# Altium schematic symbol library Tantalum_Capacitor.SchLib: 45 symbols (part 1 of 2)
Pins are listed as number, name and electrical type; pins without a type are passive.

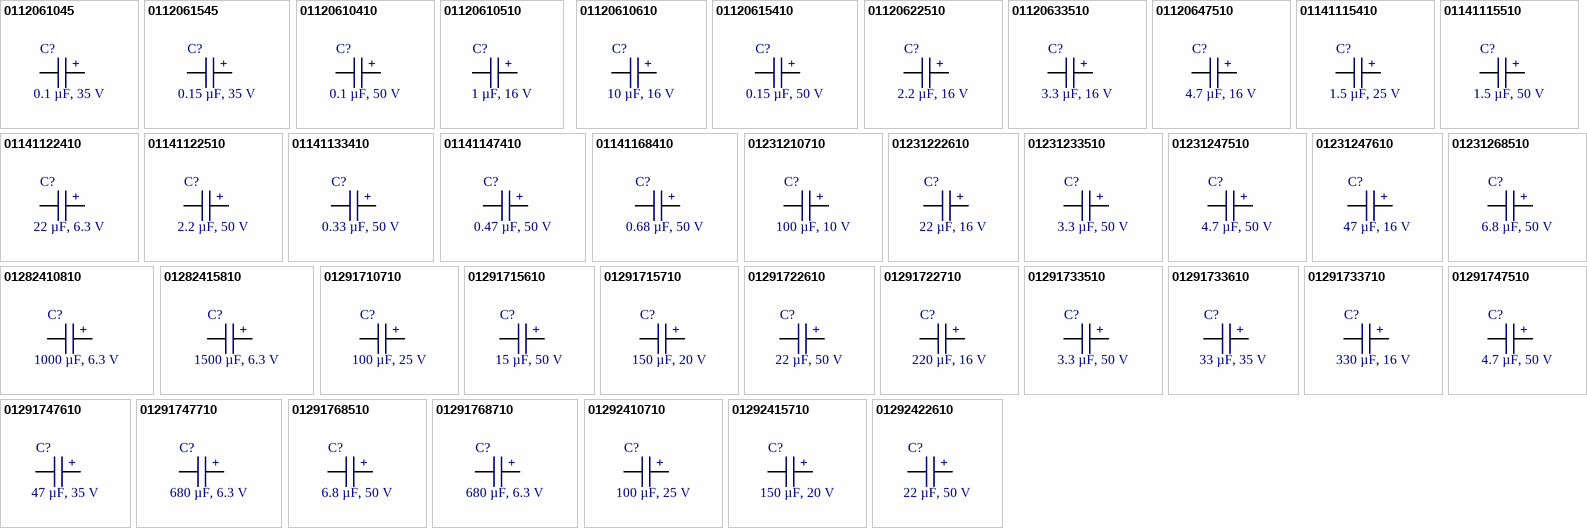
[diagram p0: symbols 0112061045 to 01292422610]

## 0112061045
designator C?, comment 0.1 µF, 35 V
CAP TANT 0.1uF  5% 35V 1206; Manufacture  Name: KYOCERA AVX; Manufacture  SN: TAJA104J035SNJ; Capacitance Tolerance: +/-5%; ComponentLink1Description: Datasheet link; ComponentLink1URL: https://datasheets.kyocera-avx.com/TAJ.pdf; ComponentLink2Description: Supplier 1 URL; ComponentLink2URL: https://www.mouser.vn/ProductDetail/KYOCERA-AVX/TAJA104J035SNJ?qs=pYVYkI7xuRU3ndoOX90AKw%3D%3D; Size: 1206; Mounting Technology: SMT; Capacitance: 0.1uF; ComponentLink3Description: Supplier 2 URL; ComponentLink3URL: https://www.digikey.com/en/products/detail/kyocera-avx/TAJA104J035SNJ/11201828?s=N4IgjCBcoMxaBjKAzAhgGwM4FMA0IB7KAbRACYBWABjgF18AHAFyhAGUmAnASwDsBzEAF98ANgCc8EEkhoseQiRAAWKuJjqQ9EM1YceA4fjJVlk6NJQYc%2BIpFJUAdGAAEAVoBiWxi0ggAqrzcTADyyACy2KiYAK6c2EYgALQQFjJyNor2KgDsABxaQkVAA; ComponentLink4Description: Supplier 3 URL; ComponentLink4URL: N/A; Supplier 1 Name: Mouser; Supplier 1 SN: 581-TAJA104J035SNJ; Supplier 1 URL: https://www.mouser.vn/ProductDetail/KYOCERA-AVX/TAJA104J035SNJ?qs=pYVYkI7xuRU3ndoOX90AKw%3D%3D; Supplier 2 Name: Digi-Key; Supplier 2 SN: 478-TAJA104J035SNJTR-ND; Supplier 2 URL: https://www.digikey.com/en/products/detail/kyocera-avx/TAJA104J035SNJ/11201828?s=N4IgjCBcoMxaBjKAzAhgGwM4FMA0IB7KAbRACYBWABjgF18AHAFyhAGUmAnASwDsBzEAF98ANgCc8EEkhoseQiRAAWKuJjqQ9EM1YceA4fjJVlk6NJQYc%2BIpFJUAdGAAEAVoBiWxi0ggAqrzcTADyyACy2KiYAK6c2EYgALQQFjJyNor2KgDsABxaQkVAA; Supplier 3 Name: thegioiic; Supplier 3 SN: N/A; Supplier 3 URL: N/A; Value: 0.1 µF, 35 V; Rated Voltage: 35 V
footprint TANTALUM SMD A (SMD TIPO A 3.2x1.6x1.6)
pins: 1, 2
text: +

## 0112061545
designator C?, comment 0.15 µF, 35 V
CAP TANT 0.15uF  5% 35V 1206; Manufacture  Name: KYOCERA AVX; Manufacture  SN: TAJA154J035RNJ; Capacitance Tolerance: +/-5%; ComponentLink1Description: Datasheet link; ComponentLink1URL: https://datasheets.kyocera-avx.com/TAJ.pdf; ComponentLink2Description: Supplier 1 URL; ComponentLink2URL: https://www.mouser.vn/ProductDetail/KYOCERA-AVX/TAJA154J035RNJ?qs=BsbvQ3Qf5CIOtUBeZxyNWw%3D%3D; Size: 1206; Mounting Technology: SMT; Capacitance: 0.15uF; ComponentLink3Description: Supplier 2 URL; ComponentLink3URL: https://www.digikey.com/en/products/detail/kyocera-avx/TAJA154J035RNJ/3068397?s=N4IgjCBcoMxaBjKAzAhgGwM4FMA0IB7KAbRACYBWABjgF18AHAFyhAGUmAnASwDsBzEAF98ANgCc8EEkhoseQiRAAWKuJjqQ9EM1YceA4fjJVlk6NJQYc%2BIpFJUAdGAoACAK0AxLYxaQQAKq83EwA8sgAstiomACunNhG5FQA7OaIVvK2SjBuAGo%2BOn6BwWGR0XEJSQC0EBYycjaK9iopABxaQl1AA; ComponentLink4Description: Supplier 3 URL; ComponentLink4URL: N/A; Supplier 1 Name: Mouser; Supplier 1 SN: 581-TAJA154J035RNJ; Supplier 1 URL: https://www.mouser.vn/ProductDetail/KYOCERA-AVX/TAJA154J035RNJ?qs=BsbvQ3Qf5CIOtUBeZxyNWw%3D%3D; Supplier 2 Name: Digi-Key; Supplier 2 SN: TAJA154J035RNJ-ND; Supplier 2 URL: https://www.digikey.com/en/products/detail/kyocera-avx/TAJA154J035RNJ/3068397?s=N4IgjCBcoMxaBjKAzAhgGwM4FMA0IB7KAbRACYBWABjgF18AHAFyhAGUmAnASwDsBzEAF98ANgCc8EEkhoseQiRAAWKuJjqQ9EM1YceA4fjJVlk6NJQYc%2BIpFJUAdGAoACAK0AxLYxaQQAKq83EwA8sgAstiomACunNhG5FQA7OaIVvK2SjBuAGo%2BOn6BwWGR0XEJSQC0EBYycjaK9iopABxaQl1AA; Supplier 3 Name: thegioiic; Supplier 3 SN: N/A; Supplier 3 URL: N/A; Value: 0.15 µF, 35 V; Rated Voltage: 35 V
footprint TANTALUM SMD A (SMD TIPO A 3.2x1.6x1.6)
pins: 1, 2
text: +

## 01120610410
designator C?, comment 0.1 µF, 50 V
CAP TANT 0.1uF 10% 50V 1206; Manufacture  Name: KYOCERA AVX; Manufacture  SN: TAJA104K050RNJ; Capacitance Tolerance: +/-10%; ComponentLink1Description: Datasheet link; ComponentLink1URL: https://datasheets.kyocera-avx.com/TAJ.pdf; ComponentLink2Description: Supplier 1 URL; ComponentLink2URL: https://www.mouser.vn/ProductDetail/KYOCERA-AVX/TAJA104K050RNJ?qs=OVpPYgiJXXX8t9XINbNxkw%3D%3D; Size: 1206; Mounting Technology: SMT; Capacitance: 0.1uF; ComponentLink3Description: Supplier 2 URL; ComponentLink3URL: https://www.digikey.com/en/products/detail/kyocera-avx/TAJA104K050RNJ/563756; ComponentLink4Description: Supplier 3 URL; ComponentLink4URL: N/A; Supplier 1 Name: Mouser; Supplier 1 SN: 581-TAJA104K050; Supplier 1 URL: https://www.mouser.vn/ProductDetail/KYOCERA-AVX/TAJA104K050RNJ?qs=OVpPYgiJXXX8t9XINbNxkw%3D%3D; Supplier 2 Name: Digi-Key; Supplier 2 SN: 478-1648-1-ND; Supplier 2 URL: https://www.digikey.com/en/products/detail/kyocera-avx/TAJA104K050RNJ/563756; Supplier 3 Name: thegioiic; Supplier 3 SN: N/A; Supplier 3 URL: N/A; Value: 0.1 µF, 50 V; Rated Voltage: 50 V
footprint TANTALUM SMD A (SMD TIPO A 3.2x1.6x1.6)
pins: 1, 2
text: +

## 01120610510
designator C?, comment 1 µF, 16 V
CAP TANT 1uF 10% 16V 1206; Manufacture  Name: KYOCERA AVX; Manufacture  SN: TAJA105K016RNJ; Capacitance Tolerance: +/-10%; ComponentLink1Description: Datasheet link; ComponentLink1URL: https://datasheets.kyocera-avx.com/TAJ.pdf; ComponentLink2Description: Supplier 1 URL; ComponentLink2URL: https://www.mouser.vn/ProductDetail/KYOCERA-AVX/TAJA105K016RNJ?qs=OVpPYgiJXXWzOIbDvQCr4Q%3D%3D; Size: 1206; Mounting Technology: SMT; Capacitance: 1uF; ComponentLink3Description: Supplier 2 URL; ComponentLink3URL: https://www.digikey.com/en/products/detail/kyocera-avx/TAJA105K016RNJ/563757; ComponentLink4Description: Supplier 3 URL; ComponentLink4URL: https://www.thegioiic.com/tu-tantalum-1uf-16v-1206-taja105k016rnj; Supplier 1 Name: Mouser; Supplier 1 SN: 581-TAJA105K016; Supplier 1 URL: https://www.mouser.vn/ProductDetail/KYOCERA-AVX/TAJA105K016RNJ?qs=OVpPYgiJXXWzOIbDvQCr4Q%3D%3D; Supplier 2 Name: Digi-Key; Supplier 2 SN: 478-1649-1-ND; Supplier 2 URL: https://www.digikey.com/en/products/detail/kyocera-avx/TAJA105K016RNJ/563757; Supplier 3 Name: thegioiic; Supplier 3 SN: N/A; Supplier 3 URL: https://www.thegioiic.com/tu-tantalum-1uf-16v-1206-taja105k016rnj; Value: 1 µF, 16 V; Rated Voltage: 16 V
footprint TANTALUM SMD A (SMD TIPO A 3.2x1.6x1.6)
pins: 1, 2
text: +

## 01120610610
designator C?, comment 10 µF, 16 V
CAP TANT 10uF 10% 16V 1206; Manufacture  Name: KYOCERA AVX; Manufacture  SN: TPSA106K016R1000; Capacitance Tolerance: +/-10%; ComponentLink1Description: Datasheet link; ComponentLink1URL: https://datasheets.kyocera-avx.com/TAJ.pdf; ComponentLink2Description: Supplier 1 URL; ComponentLink2URL: https://www.mouser.vn/ProductDetail/KYOCERA-AVX/TPSA106K016R1000?qs=GLv2FRWg8zkKT7IxHlCjvQ%3D%3D; Size: 1206; Mounting Technology: SMT; Capacitance: 10uF; ComponentLink3Description: Supplier 2 URL; ComponentLink3URL: https://www.digikey.com/en/products/detail/kyocera-avx/TPSA106K016R1000/7536120; ComponentLink4Description: Supplier 3 URL; ComponentLink4URL: https://www.thegioiic.com/tu-tantalum-10uf-16v-1206-taja106k016rnj; Supplier 1 Name: Mouser; Supplier 1 SN: 581-TPSA106K016R1000; Supplier 1 URL: https://www.mouser.vn/ProductDetail/KYOCERA-AVX/TPSA106K016R1000?qs=GLv2FRWg8zkKT7IxHlCjvQ%3D%3D; Supplier 2 Name: Digi-Key; Supplier 2 SN: 478-10757-1-ND; Supplier 2 URL: https://www.digikey.com/en/products/detail/kyocera-avx/TPSA106K016R1000/7536120; Supplier 3 Name: thegioiic; Supplier 3 SN: N/A; Supplier 3 URL: https://www.thegioiic.com/tu-tantalum-10uf-16v-1206-taja106k016rnj; Value: 10 µF, 16 V; Rated Voltage: 16 V
footprint TANTALUM SMD A (SMD TIPO A 3.2x1.6x1.6)
pins: 1, 2
text: +

## 01120615410
designator C?, comment 0.15 µF, 50 V
CAP TANT 0.15uF 10% 50V 1206; Manufacture  Name: KYOCERA AVX; Manufacture  SN: TPSA154K050R9000; Capacitance Tolerance: +/-10%; ComponentLink1Description: Datasheet link; ComponentLink1URL: https://www.mouser.vn/datasheet/2/40/TPS-3165399.pdf; ComponentLink2Description: Supplier 1 URL; ComponentLink2URL: https://www.mouser.vn/ProductDetail/KYOCERA-AVX/TPSA154K050R9000?qs=GAN3VKepnJqNxuh%2FrqDuOw%3D%3D; Size: 1206; Mounting Technology: SMT; Capacitance: 0.15uF; ComponentLink3Description: Supplier 2 URL; ComponentLink3URL: https://www.digikey.com/en/products/detail/kyocera-avx/TPSA154K050R9000/678497; ComponentLink4Description: Supplier 3 URL; ComponentLink4URL: N/A; Supplier 1 Name: Mouser; Supplier 1 SN: 581-TPSA154K050R9000; Supplier 1 URL: https://www.mouser.vn/ProductDetail/KYOCERA-AVX/TPSA154K050R9000?qs=GAN3VKepnJqNxuh%2FrqDuOw%3D%3D; Supplier 2 Name: Digi-Key; Supplier 2 SN: 478-2418-2-ND; Supplier 2 URL: https://www.digikey.com/en/products/detail/kyocera-avx/TPSA154K050R9000/678497; Supplier 3 Name: thegioiic; Supplier 3 SN: N/A; Supplier 3 URL: N/A; Value: 0.15 µF, 50 V; Rated Voltage: 50 V
footprint TANTALUM SMD A (SMD TIPO A 3.2x1.6x1.6)
pins: 1, 2
text: +

## 01120622510
designator C?, comment 2.2 µF, 16 V
CAP TANT 2.2uF 10% 16V 1206; Manufacture  Name: KYOCERA AVX; Manufacture  SN: TAJA225K016RNJ; Capacitance Tolerance: +/-10%; ComponentLink1Description: Datasheet link; ComponentLink1URL: https://datasheets.kyocera-avx.com/TAJ.pdf; ComponentLink2Description: Supplier 1 URL; ComponentLink2URL: https://www.mouser.vn/ProductDetail/KYOCERA-AVX/TAJA225K016RNJ?qs=QtLZGLLAmDbQo3XekLTU0g%3D%3D; Size: 1206; Mounting Technology: SMT; Capacitance: 2.2uF; ComponentLink3Description: Supplier 2 URL; ComponentLink3URL: https://www.digikey.com/en/products/detail/kyocera-avx/TAJA225K016RNJ/678438; ComponentLink4Description: Supplier 3 URL; ComponentLink4URL: https://www.thegioiic.com/tu-tantalum-2-2uf-16v-1206-taja225k016rnj; Supplier 1 Name: Mouser; Supplier 1 SN: 581-TAJA225K016; Supplier 1 URL: https://www.mouser.vn/ProductDetail/KYOCERA-AVX/TAJA225K016RNJ?qs=QtLZGLLAmDbQo3XekLTU0g%3D%3D; Supplier 2 Name: Digi-Key; Supplier 2 SN: 478-2353-1-ND; Supplier 2 URL: https://www.digikey.com/en/products/detail/kyocera-avx/TAJA225K016RNJ/678438; Supplier 3 Name: thegioiic; Supplier 3 SN: N/A; Supplier 3 URL: https://www.thegioiic.com/tu-tantalum-2-2uf-16v-1206-taja225k016rnj; Value: 2.2 µF, 16 V; Rated Voltage: 16 V
footprint TANTALUM SMD A (SMD TIPO A 3.2x1.6x1.6)
pins: 1, 2
text: +

## 01120633510
designator C?, comment 3.3 µF, 16 V
CAP TANT 3.3uF 10% 16V 1206; Manufacture  Name: KYOCERA AVX; Manufacture  SN: TAJA335K016RNJ; Capacitance Tolerance: +/-10%; ComponentLink1Description: Datasheet link; ComponentLink1URL: https://datasheets.kyocera-avx.com/TAJ.pdf; ComponentLink2Description: Supplier 1 URL; ComponentLink2URL: https://www.mouser.vn/ProductDetail/KYOCERA-AVX/TAJA335K016RNJ?qs=QtLZGLLAmDYTBMXnGUwm2A%3D%3D; Size: 1206; Mounting Technology: SMT; Capacitance: 3.3uF; ComponentLink3Description: Supplier 2 URL; ComponentLink3URL: https://www.digikey.com/en/products/detail/kyocera-avx/TAJA335K016RNJ/678439; ComponentLink4Description: Supplier 3 URL; ComponentLink4URL: https://www.thegioiic.com/tu-tantalum-3-3uf-16v-1206-taja335k016rnj; Supplier 1 Name: Mouser; Supplier 1 SN: 581-TAJA335K016; Supplier 1 URL: https://www.mouser.vn/ProductDetail/KYOCERA-AVX/TAJA335K016RNJ?qs=QtLZGLLAmDYTBMXnGUwm2A%3D%3D; Supplier 2 Name: Digi-Key; Supplier 2 SN: 478-2354-1-ND; Supplier 2 URL: https://www.digikey.com/en/products/detail/kyocera-avx/TAJA335K016RNJ/678439; Supplier 3 Name: thegioiic; Supplier 3 SN: N/A; Supplier 3 URL: https://www.thegioiic.com/tu-tantalum-3-3uf-16v-1206-taja335k016rnj; Value: 3.3 µF, 16 V; Rated Voltage: 16 V
footprint TANTALUM SMD A (SMD TIPO A 3.2x1.6x1.6)
pins: 1, 2
text: +

## 01120647510
designator C?, comment 4.7 µF, 16 V
CAP TANT 4.7uF 10% 16V 1206; Manufacture  Name: KYOCERA AVX; Manufacture  SN: TPSA475K016R2000; Capacitance Tolerance: +/-10%; ComponentLink1Description: Datasheet link; ComponentLink1URL: https://datasheets.kyocera-avx.com/TAJ.pdf; ComponentLink2Description: Supplier 1 URL; ComponentLink2URL: https://www.mouser.vn/ProductDetail/KYOCERA-AVX/TPSA475K016R2000?qs=dlcQbHFISzyWCYhT7KMnWQ%3D%3D; Size: 1206; Mounting Technology: SMT; Capacitance: 4.7uF; ComponentLink3Description: Supplier 2 URL; ComponentLink3URL: https://www.digikey.com/en/products/detail/kyocera-avx/TPSA475K016R2000/1472630; ComponentLink4Description: Supplier 3 URL; ComponentLink4URL: https://www.thegioiic.com/tu-tantalum-4-7uf-16v-1206-taja475k016rnj; Supplier 1 Name: Mouser; Supplier 1 SN: 581-TPSA475K016R2000; Supplier 1 URL: https://www.mouser.vn/ProductDetail/KYOCERA-AVX/TPSA475K016R2000?qs=dlcQbHFISzyWCYhT7KMnWQ%3D%3D; Supplier 2 Name: Digi-Key; Supplier 2 SN: 478-5229-1-ND; Supplier 2 URL: https://www.digikey.com/en/products/detail/kyocera-avx/TPSA475K016R2000/1472630; Supplier 3 Name: thegioiic; Supplier 3 SN: N/A; Supplier 3 URL: https://www.thegioiic.com/tu-tantalum-4-7uf-16v-1206-taja475k016rnj; Value: 4.7 µF, 16 V; Rated Voltage: 16 V
footprint TANTALUM SMD A (SMD TIPO A 3.2x1.6x1.6)
pins: 1, 2
text: +

## 01141115410
designator C?, comment 1.5 µF, 25 V
CAP TANT 0.15uF 10% 50V 1411; Manufacture  Name: KYOCERA AVX; Manufacture  SN: TAJB154K050RNJ; Capacitance Tolerance: +/-10%; Rated Voltage: 25 V; ComponentLink1Description: Datasheet link; ComponentLink1URL: https://datasheets.kyocera-avx.com/TAJ.pdf; ComponentLink2Description: Supplier 1 URL; ComponentLink2URL: https://www.mouser.vn/ProductDetail/KYOCERA-AVX/TAJB154K050RNJ?qs=0%252BYwpxhRXZjP4qpMbEsfoQ%3D%3D; Size: 1411; Mounting Technology: SMT; Capacitance: 0.15uF; ComponentLink3Description: Supplier 2 URL; ComponentLink3URL: https://www.digikey.com/en/products/detail/kyocera-avx/TAJB154K050RNJ/1469630?s=N4IgjCBcoMxaBjKAzAhgGwM4FMA0IB7KAbXBgBYAGEAXXwAcAXKEAZUYCcBLAOwHMQAX3xgAbPBBJIaLHkIkQATnIAOUXDogmLdt35D8oxRKkyc%2BIpFJVFMW7QbNIbTrwHCQAJkrlj0SSgY5vJWIJQAdGAArAAEAK0AYg5aTiAAqjxcjADyyACy2KiYAK4c2AZelADsfoiBshYKUZQxAGrJ2s4ZWbkFRaXlHgC0EP6mQXKW1lUqtILzQA; ComponentLink4Description: Supplier 3 URL; ComponentLink4URL: N/A; Supplier 1 Name: Mouser; Supplier 1 SN: 581-TAJB154K050RNJ; Supplier 1 URL: https://www.mouser.vn/ProductDetail/KYOCERA-AVX/TAJB154K050RNJ?qs=0%252BYwpxhRXZjP4qpMbEsfoQ%3D%3D; Supplier 2 Name: Digi-Key; Supplier 2 SN: TAJB154K050RNJ-ND; Supplier 2 URL: https://www.digikey.com/en/products/detail/kyocera-avx/TAJB154K050RNJ/1469630?s=N4IgjCBcoMxaBjKAzAhgGwM4FMA0IB7KAbXBgBYAGEAXXwAcAXKEAZUYCcBLAOwHMQAX3xgAbPBBJIaLHkIkQATnIAOUXDogmLdt35D8oxRKkyc%2BIpFJVFMW7QbNIbTrwHCQAJkrlj0SSgY5vJWIJQAdGAArAAEAK0AYg5aTiAAqjxcjADyyACy2KiYAK4c2AZelADsfoiBshYKUZQxAGrJ2s4ZWbkFRaXlHgC0EP6mQXKW1lUqtILzQA; Supplier 3 Name: thegioiic; Supplier 3 SN: N/A; Supplier 3 URL: N/A; Value: 1.5 µF, 25 V
footprint TANTALUM SMD B (SMD TIPO B 3.5x2.8x1.9)
pins: 1, 2
text: +

## 01141115510
designator C?, comment 1.5 µF, 50 V
CAP TANT 1.5uF 10% 50V 1411; Manufacture  Name: KYOCERA AVX; Manufacture  SN: TAJB155K050RNJ; Capacitance Tolerance: +/-10%; ComponentLink1Description: Datasheet link; ComponentLink1URL: https://datasheets.kyocera-avx.com/TAJ.pdf; ComponentLink2Description: Supplier 1 URL; ComponentLink2URL: https://www.mouser.vn/ProductDetail/KYOCERA-AVX/TAJB155K050RNJ?qs=73RpG39PUGic2ntV4iBqEA%3D%3D; Size: 1411; Mounting Technology: SMT; Capacitance: 1.5uF; ComponentLink3Description: Supplier 2 URL; ComponentLink3URL: https://www.digikey.com/en/products/detail/kyocera-avx/TAJB155K050RNJ/2832824?s=N4IgjCBcoMxaBjKAzAhgGwM4FMA0IB7KAbXBgBYAGEAXXwAcAXKEAZUYCcBLAOwHMQAX3xgAbPBBJIaLHkIkQATnIAOUXDogmLdt35D8oxRKkyc%2BIpFJVFMW7QbNIbTrwHCQAJkrlj0SSgY5vJW4AB0AKwABACtAGIOWk4gAKo8XIwA8sgAstiomACuHNgGXpQA7H6IgbIWChGUUQBqidrOaRnZeQXFpR4AtBD%2BpkFyltYVKrSCs0A; ComponentLink4Description: Supplier 3 URL; ComponentLink4URL: N/A; Supplier 1 Name: Mouser; Supplier 1 SN: 581-TAJB155K050RNJ; Supplier 1 URL: https://www.mouser.vn/ProductDetail/KYOCERA-AVX/TAJB155K050RNJ?qs=73RpG39PUGic2ntV4iBqEA%3D%3D; Supplier 2 Name: Digi-Key; Supplier 2 SN: 478-6928-1-ND; Supplier 2 URL: https://www.digikey.com/en/products/detail/kyocera-avx/TAJB155K050RNJ/2832824?s=N4IgjCBcoMxaBjKAzAhgGwM4FMA0IB7KAbXBgBYAGEAXXwAcAXKEAZUYCcBLAOwHMQAX3xgAbPBBJIaLHkIkQATnIAOUXDogmLdt35D8oxRKkyc%2BIpFJVFMW7QbNIbTrwHCQAJkrlj0SSgY5vJW4AB0AKwABACtAGIOWk4gAKo8XIwA8sgAstiomACuHNgGXpQA7H6IgbIWChGUUQBqidrOaRnZeQXFpR4AtBD%2BpkFyltYVKrSCs0A; Supplier 3 Name: thegioiic; Supplier 3 SN: N/A; Supplier 3 URL: N/A; Value: 1.5 µF, 50 V; Rated Voltage: 50 V
footprint TANTALUM SMD B (SMD TIPO B 3.5x2.8x1.9)
pins: 1, 2
text: +

## 01141122410
designator C?, comment 22 µF, 6.3 V
CAP TANT 0.22uF 10% 50V 1411; Manufacture  Name: KYOCERA AVX; Manufacture  SN: TAJB224K050RNJ; Capacitance Tolerance: +/-10%; Rated Voltage: 6.3 V; ComponentLink1Description: Datasheet link; ComponentLink1URL: https://datasheets.kyocera-avx.com/TAJ.pdf; ComponentLink2Description: Supplier 1 URL; ComponentLink2URL: https://www.mouser.vn/ProductDetail/KYOCERA-AVX/TAJB224K050RNJ?qs=fdqkYiOtZpcKcsmA68utwQ%3D%3D; Size: 1411; Mounting Technology: SMT; Capacitance: 0.22uF; ComponentLink3Description: Supplier 2 URL; ComponentLink3URL: https://www.digikey.com/en/products/detail/kyocera-avx/TAJB224K050RNJ/1469656?s=N4IgjCBcoMxaBjKAzAhgGwM4FMA0IB7KAbXBgBYAGEAXXwAcAXKEAZUYCcBLAOwHMQAX3xgAbPBBJIaLHkIkQATnIAOUXDogmLdt35D8oxRKkyc%2BIpFJVFMW7QbNIbTrwHCQAJkrlj0SSgY5vJWIJQAdJ6eAAQArQBiDlpOIACqPFyMAPLIALLYqJgArhzYBl6UAOx%2BiIGyFgoArJTRAGpJ2s7pmTn5hSVlHgC0EP6mQXKW1pUqtILzQA; ComponentLink4Description: Supplier 3 URL; ComponentLink4URL: N/A; Supplier 1 Name: Mouser; Supplier 1 SN: 581-TAJB224K050R; Supplier 1 URL: https://www.mouser.vn/ProductDetail/KYOCERA-AVX/TAJB224K050RNJ?qs=fdqkYiOtZpcKcsmA68utwQ%3D%3D; Supplier 2 Name: Digi-Key; Supplier 2 SN: TAJB224K050RNJ-ND; Supplier 2 URL: https://www.digikey.com/en/products/detail/kyocera-avx/TAJB224K050RNJ/1469656?s=N4IgjCBcoMxaBjKAzAhgGwM4FMA0IB7KAbXBgBYAGEAXXwAcAXKEAZUYCcBLAOwHMQAX3xgAbPBBJIaLHkIkQATnIAOUXDogmLdt35D8oxRKkyc%2BIpFJVFMW7QbNIbTrwHCQAJkrlj0SSgY5vJWIJQAdJ6eAAQArQBiDlpOIACqPFyMAPLIALLYqJgArhzYBl6UAOx%2BiIGyFgoArJTRAGpJ2s7pmTn5hSVlHgC0EP6mQXKW1pUqtILzQA; Supplier 3 Name: thegioiic; Supplier 3 SN: N/A; Supplier 3 URL: N/A; Value: 22 µF, 6.3 V
footprint TANTALUM SMD B (SMD TIPO B 3.5x2.8x1.9)
pins: 1, 2
text: +

## 01141122510
designator C?, comment 2.2 µF, 50 V
CAP TANT 2.2uF 10% 50V 1411; Manufacture  Name: KYOCERA AVX; Manufacture  SN: TAJB225K050RNJ; Capacitance Tolerance: +/-10%; ComponentLink1Description: Datasheet link; ComponentLink1URL: https://datasheets.kyocera-avx.com/TAJ.pdf; ComponentLink2Description: Supplier 1 URL; ComponentLink2URL: https://www.mouser.vn/ProductDetail/KYOCERA-AVX/TAJB225K050RNJ?qs=73RpG39PUGikdEZBwF7MGw%3D%3D; Size: 1411; Mounting Technology: SMT; Capacitance: 2.2uF; ComponentLink3Description: Supplier 2 URL; ComponentLink3URL: https://www.digikey.com/en/products/detail/kyocera-avx/TAJB225K050RNJ/2832813?s=N4IgjCBcoMxaBjKAzAhgGwM4FMA0IB7KAbXBgBYAGEAXXwAcAXKEAZUYCcBLAOwHMQAX3xgAbPBBJIaLHkIkQATnIAOUXDogmLdt35D8oxRKkyc%2BIpFJVFMW7QbNIbTrwHCQAJkrlj0SSgY5vJWXgB0ngAEAK0AYg5aTiAAqjxcjADyyACy2KiYAK4c2AZelADsfoiBshYKAKyUkQBqCdrOqelZuflFJR4AtBD%2BpkFyltblKrSCs0A; ComponentLink4Description: Supplier 3 URL; ComponentLink4URL: N/A; Supplier 1 Name: Mouser; Supplier 1 SN: 581-TAJB225K050RNJ; Supplier 1 URL: https://www.mouser.vn/ProductDetail/KYOCERA-AVX/TAJB225K050RNJ?qs=73RpG39PUGikdEZBwF7MGw%3D%3D; Supplier 2 Name: Digi-Key; Supplier 2 SN: 478-6929-1-ND; Supplier 2 URL: https://www.digikey.com/en/products/detail/kyocera-avx/TAJB225K050RNJ/2832813?s=N4IgjCBcoMxaBjKAzAhgGwM4FMA0IB7KAbXBgBYAGEAXXwAcAXKEAZUYCcBLAOwHMQAX3xgAbPBBJIaLHkIkQATnIAOUXDogmLdt35D8oxRKkyc%2BIpFJVFMW7QbNIbTrwHCQAJkrlj0SSgY5vJWXgB0ngAEAK0AYg5aTiAAqjxcjADyyACy2KiYAK4c2AZelADsfoiBshYKAKyUkQBqCdrOqelZuflFJR4AtBD%2BpkFyltblKrSCs0A; Supplier 3 Name: thegioiic; Supplier 3 SN: N/A; Supplier 3 URL: N/A; Value: 2.2 µF, 50 V; Rated Voltage: 50 V
footprint TANTALUM SMD B (SMD TIPO B 3.5x2.8x1.9)
pins: 1, 2
text: +

## 01141133410
designator C?, comment 0.33 µF, 50 V
CAP TANT 0.33uF 10% 50V 1411; Manufacture  Name: KYOCERA AVX; Manufacture  SN: TAJB334K050RNJ; Capacitance Tolerance: +/-10%; ComponentLink1Description: Datasheet link; ComponentLink1URL: https://datasheets.kyocera-avx.com/TAJ.pdf; ComponentLink2Description: Supplier 1 URL; ComponentLink2URL: https://www.mouser.vn/ProductDetail/KYOCERA-AVX/TAJB334K050RNJ?qs=vCvzkGKhcJSmv%2FHntFw%2FSQ%3D%3D; Size: 1411; Mounting Technology: SMT; Capacitance: 0.33uF; ComponentLink3Description: Supplier 2 URL; ComponentLink3URL: https://www.digikey.com/en/products/detail/kyocera-avx/TAJB334K050RNJ/678456; ComponentLink4Description: Supplier 3 URL; ComponentLink4URL: N/A; Supplier 1 Name: Mouser; Supplier 1 SN: 581-TAJB334K050R; Supplier 1 URL: https://www.mouser.vn/ProductDetail/KYOCERA-AVX/TAJB334K050RNJ?qs=vCvzkGKhcJSmv%2FHntFw%2FSQ%3D%3D; Supplier 2 Name: Digi-Key; Supplier 2 SN: 478-2377-1-ND; Supplier 2 URL: https://www.digikey.com/en/products/detail/kyocera-avx/TAJB334K050RNJ/678456; Supplier 3 Name: thegioiic; Supplier 3 SN: N/A; Supplier 3 URL: N/A; Value: 0.33 µF, 50 V; Rated Voltage: 50 V
footprint TANTALUM SMD B (SMD TIPO B 3.5x2.8x1.9)
pins: 1, 2
text: +

## 01141147410
designator C?, comment 0.47 µF, 50 V
CAP TANT 0.47uF 10% 50V 1411; Manufacture  Name: KYOCERA AVX; Manufacture  SN: TAJB474K050RNJ; Capacitance Tolerance: +/-10%; ComponentLink1Description: Datasheet link; ComponentLink1URL: https://datasheets.kyocera-avx.com/TAJ.pdf; ComponentLink2Description: Supplier 1 URL; ComponentLink2URL: https://www.mouser.vn/ProductDetail/KYOCERA-AVX/TAJB474K050RNJ?qs=mgX5NEyWO4TSsLAWu6Licg%3D%3D; Size: 1411; Mounting Technology: SMT; Capacitance: 0.47uF; ComponentLink3Description: Supplier 2 URL; ComponentLink3URL: https://www.digikey.com/en/products/detail/kyocera-avx/TAJB474K050RNJ/678457; ComponentLink4Description: Supplier 3 URL; ComponentLink4URL: N/A; Supplier 1 Name: Mouser; Supplier 1 SN: 581-TAJB474K050RNJ; Supplier 1 URL: https://www.mouser.vn/ProductDetail/KYOCERA-AVX/TAJB474K050RNJ?qs=mgX5NEyWO4TSsLAWu6Licg%3D%3D; Supplier 2 Name: Digi-Key; Supplier 2 SN: 478-2378-1-ND; Supplier 2 URL: https://www.digikey.com/en/products/detail/kyocera-avx/TAJB474K050RNJ/678457; Supplier 3 Name: thegioiic; Supplier 3 SN: N/A; Supplier 3 URL: N/A; Value: 0.47 µF, 50 V; Rated Voltage: 50 V
footprint TANTALUM SMD B (SMD TIPO B 3.5x2.8x1.9)
pins: 1, 2
text: +

## 01141168410
designator C?, comment 0.68 µF, 50 V
CAP TANT 0.68uF 10% 50V 1411; Manufacture  Name: KYOCERA AVX; Manufacture  SN: TAJB684K050RNJ; Capacitance Tolerance: +/-10%; ComponentLink1Description: Datasheet link; ComponentLink1URL: https://datasheets.kyocera-avx.com/TAJ.pdf; ComponentLink2Description: Supplier 1 URL; ComponentLink2URL: https://www.mouser.vn/ProductDetail/KYOCERA-AVX/TAJB684K050RNJ?qs=ZjRtS80k2UPzIFnmfsjorA%3D%3D; Size: 1411; Mounting Technology: SMT; Capacitance: 0.68uF; ComponentLink3Description: Supplier 2 URL; ComponentLink3URL: https://www.digikey.com/en/products/detail/kyocera-avx/TAJB684K050RNJ/678458; ComponentLink4Description: Supplier 3 URL; ComponentLink4URL: N/A; Supplier 1 Name: Mouser; Supplier 1 SN: 581-TAJB684K050RNJ; Supplier 1 URL: https://www.mouser.vn/ProductDetail/KYOCERA-AVX/TAJB684K050RNJ?qs=ZjRtS80k2UPzIFnmfsjorA%3D%3D; Supplier 2 Name: Digi-Key; Supplier 2 SN: 478-2379-2-ND; Supplier 2 URL: https://www.digikey.com/en/products/detail/kyocera-avx/TAJB684K050RNJ/678458; Supplier 3 Name: thegioiic; Supplier 3 SN: N/A; Supplier 3 URL: N/A; Value: 0.68 µF, 50 V; Rated Voltage: 50 V
footprint TANTALUM SMD B (SMD TIPO B 3.5x2.8x1.9)
pins: 1, 2
text: +

## 01231210710
designator C?, comment 100 µF, 10 V
CAP TANT 100uF 10% 10V 2312; Manufacture  Name: KYOCERA AVX; Manufacture  SN: TAJC107K010RNJ; Capacitance Tolerance: +/-10%; ComponentLink1Description: Datasheet link; ComponentLink1URL: https://datasheets.kyocera-avx.com/TAJ.pdf; ComponentLink2Description: Supplier 1 URL; ComponentLink2URL: https://www.mouser.vn/ProductDetail/KYOCERA-AVX/TAJC107K010RNJ?qs=fdqkYiOtZpdKu8G0TQzFvw%3D%3D; Size: 2312; Mounting Technology: SMT; Capacitance: 100uF; ComponentLink3Description: Supplier 2 URL; ComponentLink3URL: https://www.digikey.com/en/products/detail/kyocera-avx/TAJC107K010RNJ/563809; ComponentLink4Description: Supplier 3 URL; ComponentLink4URL: https://www.thegioiic.com/tu-tantalum-100uf-10v-2312-tajc107k010rnj; Supplier 1 Name: Mouser; Supplier 1 SN: 581-TAJC107K010R; Supplier 1 URL: https://www.mouser.vn/ProductDetail/KYOCERA-AVX/TAJC107K010RNJ?qs=fdqkYiOtZpdKu8G0TQzFvw%3D%3D; Supplier 2 Name: Digi-Key; Supplier 2 SN: 478-1704-1-ND; Supplier 2 URL: https://www.digikey.com/en/products/detail/kyocera-avx/TAJC107K010RNJ/563809; Supplier 3 Name: thegioiic; Supplier 3 SN: N/A; Supplier 3 URL: https://www.thegioiic.com/tu-tantalum-100uf-10v-2312-tajc107k010rnj; Value: 100 µF, 10 V; Rated Voltage: 10 V
footprint TANTALUM SMD C (SMD TIPO C 6.0x3.2x2.2)
pins: 1, 2
text: +

## 01231222610
designator C?, comment 22 µF, 16 V
CAP TANT 22uF 10% 16V 2312; Manufacture  Name: KYOCERA AVX; Manufacture  SN: TAJC226K016RNJ; Capacitance Tolerance: +/-10%; ComponentLink1Description: Datasheet link; ComponentLink1URL: https://datasheets.kyocera-avx.com/TAJ.pdf; ComponentLink2Description: Supplier 1 URL; ComponentLink2URL: https://www.mouser.vn/ProductDetail/KYOCERA-AVX/TAJC226K016RNJ?qs=zt0pNtghXG%252B8PDA37tw3BQ%3D%3D; Size: 2312; Mounting Technology: SMT; Capacitance: 22uF; ComponentLink3Description: Supplier 2 URL; ComponentLink3URL: https://www.digikey.com/en/products/detail/kyocera-avx/TAJC226K016RNJ/1126827; ComponentLink4Description: Supplier 3 URL; ComponentLink4URL: https://www.thegioiic.com/tu-tantalum-22uf-16v-2312-tajc226k016rnj; Supplier 1 Name: Mouser; Supplier 1 SN: 581-TAJC226K016R; Supplier 1 URL: https://www.mouser.vn/ProductDetail/KYOCERA-AVX/TAJC226K016RNJ?qs=zt0pNtghXG%252B8PDA37tw3BQ%3D%3D; Supplier 2 Name: Digi-Key; Supplier 2 SN: 478-3899-1-ND; Supplier 2 URL: https://www.digikey.com/en/products/detail/kyocera-avx/TAJC226K016RNJ/1126827; Supplier 3 Name: thegioiic; Supplier 3 SN: N/A; Supplier 3 URL: https://www.thegioiic.com/tu-tantalum-22uf-16v-2312-tajc226k016rnj; Value: 22 µF, 16 V; Rated Voltage: 16 V
footprint TANTALUM SMD C (SMD TIPO C 6.0x3.2x2.2)
pins: 1, 2
text: +

## 01231233510
designator C?, comment 3.3 µF, 50 V
CAP TANT 3.3uF 10% 50V 2312; Manufacture  Name: KYOCERA AVX; Manufacture  SN: TAJC335K050RNJ; Capacitance Tolerance: +/-10%; ComponentLink1Description: Datasheet link; ComponentLink1URL: https://datasheets.kyocera-avx.com/TAJ.pdf; ComponentLink2Description: Supplier 1 URL; ComponentLink2URL: https://www.mouser.vn/ProductDetail/KYOCERA-AVX/TAJC335K050RNJ?qs=fdqkYiOtZpeQSKdaNQs0kw%3D%3D; Size: 2312; Mounting Technology: SMT; Capacitance: 3.3uF; ComponentLink3Description: Supplier 2 URL; ComponentLink3URL: https://www.digikey.com/en/products/detail/kyocera-avx/TAJC335K050RNJ/809526; ComponentLink4Description: Supplier 3 URL; ComponentLink4URL: N/A; Supplier 1 Name: Mouser; Supplier 1 SN: 581-TAJC335K050RNJ; Supplier 1 URL: https://www.mouser.vn/ProductDetail/KYOCERA-AVX/TAJC335K050RNJ?qs=fdqkYiOtZpeQSKdaNQs0kw%3D%3D; Supplier 2 Name: Digi-Key; Supplier 2 SN: 478-3076-1-ND; Supplier 2 URL: https://www.digikey.com/en/products/detail/kyocera-avx/TAJC335K050RNJ/809526; Supplier 3 Name: thegioiic; Supplier 3 SN: N/A; Supplier 3 URL: N/A; Value: 3.3 µF, 50 V; Rated Voltage: 50 V
footprint TANTALUM SMD C (SMD TIPO C 6.0x3.2x2.2)
pins: 1, 2
text: +

## 01231247510
designator C?, comment 4.7 µF, 50 V
CAP TANT 4.7uF 10% 50V 2312; Manufacture  Name: KYOCERA AVX; Manufacture  SN: TAJC475K050RNJ; Capacitance Tolerance: +/-10%; ComponentLink1Description: Datasheet link; ComponentLink1URL: https://datasheets.kyocera-avx.com/TAJ.pdf; ComponentLink2Description: Supplier 1 URL; ComponentLink2URL: https://www.mouser.vn/ProductDetail/KYOCERA-AVX/TAJC475K050RNJ?qs=TgiVZBL2SvxGv6wm1vN34g%3D%3D; Size: 2312; Mounting Technology: SMT; Capacitance: 4.7uF; ComponentLink3Description: Supplier 2 URL; ComponentLink3URL: https://www.digikey.com/en/products/detail/kyocera-avx/TAJC475K050RNJ/1833767; ComponentLink4Description: Supplier 3 URL; ComponentLink4URL: N/A; Supplier 1 Name: Mouser; Supplier 1 SN: 581-TAJC475K050RNJ; Supplier 1 URL: https://www.mouser.vn/ProductDetail/KYOCERA-AVX/TAJC475K050RNJ?qs=TgiVZBL2SvxGv6wm1vN34g%3D%3D; Supplier 2 Name: Digi-Key; Supplier 2 SN: 478-4775-1-ND; Supplier 2 URL: https://www.digikey.com/en/products/detail/kyocera-avx/TAJC475K050RNJ/1833767; Supplier 3 Name: thegioiic; Supplier 3 SN: N/A; Supplier 3 URL: N/A; Value: 4.7 µF, 50 V; Rated Voltage: 50 V
footprint TANTALUM SMD C (SMD TIPO C 6.0x3.2x2.2)
pins: 1, 2
text: +

## 01231247610
designator C?, comment 47 µF, 16 V
CAP TANT 47uF 10% 16V 2312; Manufacture  Name: KYOCERA AVX; Manufacture  SN: TAJC476K016RNJ; Capacitance Tolerance: +/-10%; ComponentLink1Description: Datasheet link; ComponentLink1URL: https://datasheets.kyocera-avx.com/TAJ.pdf; ComponentLink2Description: Supplier 1 URL; ComponentLink2URL: https://www.mouser.vn/ProductDetail/KYOCERA-AVX/TAJC476K016RNJ?qs=srZBJ3srS4Ar%252Buwv3498Rg%3D%3D; Size: 2312; Mounting Technology: SMT; Capacitance: 47uF; ComponentLink3Description: Supplier 2 URL; ComponentLink3URL: https://www.digikey.com/en/products/detail/kyocera-avx/TAJC476K016RNJ/563823; ComponentLink4Description: Supplier 3 URL; ComponentLink4URL: https://www.thegioiic.com/tu-tantalum-47uf-16v-2312-tajc476k016rnj; Supplier 1 Name: Mouser; Supplier 1 SN: 581-TAJC476K016R; Supplier 1 URL: https://www.mouser.vn/ProductDetail/KYOCERA-AVX/TAJC476K016RNJ?qs=srZBJ3srS4Ar%252Buwv3498Rg%3D%3D; Supplier 2 Name: Digi-Key; Supplier 2 SN: 478-1718-1-ND; Supplier 2 URL: https://www.digikey.com/en/products/detail/kyocera-avx/TAJC476K016RNJ/563823; Supplier 3 Name: thegioiic; Supplier 3 SN: N/A; Supplier 3 URL: https://www.thegioiic.com/tu-tantalum-47uf-16v-2312-tajc476k016rnj; Value: 47 µF, 16 V; Rated Voltage: 16 V
footprint TANTALUM SMD C (SMD TIPO C 6.0x3.2x2.2)
pins: 1, 2
text: +

## 01231268510
designator C?, comment 6.8 µF, 50 V
CAP TANT 6.8uF 10% 50V 2312; Manufacture  Name: KYOCERA AVX; Manufacture  SN: TAJC685K050RNJ; Capacitance Tolerance: +/-10%; ComponentLink1Description: Datasheet link; ComponentLink1URL: https://datasheets.kyocera-avx.com/TAJ.pdf; ComponentLink2Description: Supplier 1 URL; ComponentLink2URL: https://www.mouser.vn/ProductDetail/KYOCERA-AVX/TAJC685K050RNJ?qs=TgiVZBL2Svy6adUjeyKeaA%3D%3D; Size: 2312; Mounting Technology: SMT; Capacitance: 6.8uF; ComponentLink3Description: Supplier 2 URL; ComponentLink3URL: https://www.digikey.com/en/products/detail/kyocera-avx/TAJC685K050RNJ/1833768; ComponentLink4Description: Supplier 3 URL; ComponentLink4URL: N/A; Supplier 1 Name: Mouser; Supplier 1 SN: 581-TAJC685K050RNJ; Supplier 1 URL: https://www.mouser.vn/ProductDetail/KYOCERA-AVX/TAJC685K050RNJ?qs=TgiVZBL2Svy6adUjeyKeaA%3D%3D; Supplier 2 Name: Digi-Key; Supplier 2 SN: 478-4776-1-ND; Supplier 2 URL: https://www.digikey.com/en/products/detail/kyocera-avx/TAJC685K050RNJ/1833768; Supplier 3 Name: thegioiic; Supplier 3 SN: N/A; Supplier 3 URL: N/A; Value: 6.8 µF, 50 V; Rated Voltage: 50 V
footprint TANTALUM SMD C (SMD TIPO C 6.0x3.2x2.2)
pins: 1, 2
text: +

## 01282410810
designator C?, comment 1000 µF, 6.3 V
CAP TANT1000uF 10% 6.3V 2824; Manufacture  Name: KYOCERA AVX; Manufacture  SN: F720J108KMC; Capacitance Tolerance: +/-10%; Capacitance: 1000uF; ComponentLink1Description: Datasheet link; ComponentLink1URL: https://datasheets.kyocera-avx.com/TAJ.pdf; ComponentLink2Description: Supplier 1 URL; ComponentLink2URL: https://www.mouser.vn/ProductDetail/KYOCERA-AVX/F720J108KMC?qs=eSfX1CQlHqrkBYa0Dqa%2Fhg%3D%3D; Size: 2824; Mounting Technology: SMT; ComponentLink3Description: Supplier 2 URL; ComponentLink3URL: https://www.digikey.com/en/products/detail/kyocera-avx/F720J108KMC/4005329; ComponentLink4Description: Supplier 3 URL; ComponentLink4URL: N/A; Supplier 1 Name: Mouser; Supplier 1 SN: 581-F720J108KMC; Supplier 1 URL: https://www.mouser.vn/ProductDetail/KYOCERA-AVX/F720J108KMC?qs=eSfX1CQlHqrkBYa0Dqa%2Fhg%3D%3D; Supplier 2 Name: Digi-Key; Supplier 2 SN: 478-8064-1-ND; Supplier 2 URL: https://www.digikey.com/en/products/detail/kyocera-avx/F720J108KMC/4005329; Supplier 3 Name: thegioiic; Supplier 3 SN: N/A; Supplier 3 URL: N/A; Value: 1000 µF, 6.3 V; Rated Voltage: 6.3 V
footprint TANTALUM SMD M (SMD TIPO M 7.2 X 6.0)
pins: 1, 2
text: +

## 01282415810
designator C?, comment 1500 µF, 6.3 V
CAP TANT1500uF 10% 6.3V 2824; Manufacture  Name: KYOCERA AVX; Manufacture  SN: F720J158KMC; Capacitance Tolerance: +/-10%; Capacitance: 1500uF; ComponentLink1Description: Datasheet link; ComponentLink1URL: https://datasheets.kyocera-avx.com/TAJ.pdf; ComponentLink2Description: Supplier 1 URL; ComponentLink2URL: https://www.mouser.vn/ProductDetail/KYOCERA-AVX/F720J158KMC?qs=a5AWWN0nKwZUh%2FoS%2FKAN8Q%3D%3D; Size: 2824; Mounting Technology: SMT; ComponentLink3Description: Supplier 2 URL; ComponentLink3URL: https://www.digikey.com/en/products/detail/kyocera-avx/F720J158KMC/4005050?s=N4IgjCBcoMxaBjKAzAhgGwM4FMA0IB7KAbXBgBYAGEAXXwAcAXKEAZUYCcBLAOwHMQAX3wA2AJzwQSSGix5CJEFTEwVtBs0htOvAcJAAmSuQnQpKDDnxFIpMAFZKlAAQBWgGLqQTFgFUeXIwA8sgAstiomACuHNhC%2BEYA7KaIFnLWiiIAdDDOAGpePlr%2BgSHhkTFx%2BgC0EGbSslYKtkqJABy0gl1AA; ComponentLink4Description: Supplier 3 URL; ComponentLink4URL: N/A; Supplier 1 Name: Mouser; Supplier 1 SN: 647-F720J158KMC; Supplier 1 URL: https://www.mouser.vn/ProductDetail/KYOCERA-AVX/F720J158KMC?qs=a5AWWN0nKwZUh%2FoS%2FKAN8Q%3D%3D; Supplier 2 Name: Digi-Key; Supplier 2 SN: 478-8066-1-ND; Supplier 2 URL: https://www.digikey.com/en/products/detail/kyocera-avx/F720J158KMC/4005050?s=N4IgjCBcoMxaBjKAzAhgGwM4FMA0IB7KAbXBgBYAGEAXXwAcAXKEAZUYCcBLAOwHMQAX3wA2AJzwQSSGix5CJEFTEwVtBs0htOvAcJAAmSuQnQpKDDnxFIpMAFZKlAAQBWgGLqQTFgFUeXIwA8sgAstiomACuHNhC%2BEYA7KaIFnLWiiIAdDDOAGpePlr%2BgSHhkTFx%2BgC0EGbSslYKtkqJABy0gl1AA; Supplier 3 Name: thegioiic; Supplier 3 SN: N/A; Supplier 3 URL: N/A; Value: 1500 µF, 6.3 V; Rated Voltage: 6.3 V
footprint TANTALUM SMD M (SMD TIPO M 7.2 X 6.0)
pins: 1, 2
text: +

## 01291710710
designator C?, comment 100 µF, 25 V
CAP TANT 100uF 10% 25V 2917; Manufacture  Name: KYOCERA AVX; Manufacture  SN: TPME107K025R0060; Capacitance Tolerance: +/-10%; ComponentLink1Description: Datasheet link; ComponentLink1URL: https://datasheets.kyocera-avx.com/TAJ.pdf; ComponentLink2Description: Supplier 1 URL; ComponentLink2URL: https://www.mouser.vn/ProductDetail/KYOCERA-AVX/TPME107K025R0060?qs=YCa%2FAAYMW02QR1xkM79Urw%3D%3D; Size: 2917; Mounting Technology: SMT; Capacitance: 100uF; ComponentLink3Description: Supplier 2 URL; ComponentLink3URL: https://www.digikey.com/en/products/detail/kyocera-avx/TPME107K025R0060/7794461; ComponentLink4Description: Supplier 3 URL; ComponentLink4URL: N/A; Supplier 1 Name: Mouser; Supplier 1 SN: 581-TPME107K025R0060; Supplier 1 URL: https://www.mouser.vn/ProductDetail/KYOCERA-AVX/TPME107K025R0060?qs=YCa%2FAAYMW02QR1xkM79Urw%3D%3D; Supplier 2 Name: Digi-Key; Supplier 2 SN: 478-11341-1-ND; Supplier 2 URL: https://www.digikey.com/en/products/detail/kyocera-avx/TPME107K025R0060/7794461; Supplier 3 Name: thegioiic; Supplier 3 SN: N/A; Supplier 3 URL: N/A; Value: 100 µF, 25 V; Rated Voltage: 25 V
footprint TANTALUM SMD E (SMD TIPO E  7.3x4.3x4.1)
pins: 1, 2
text: +

## 01291715610
designator C?, comment 15 µF, 50 V
CAP TANT 15uF 10% 50V 2917; Manufacture  Name: KYOCERA AVX; Manufacture  SN: TPSE156K050R0250; Capacitance Tolerance: +/-10%; ComponentLink1Description: Datasheet link; ComponentLink1URL: https://datasheets.kyocera-avx.com/TAJ.pdf; ComponentLink2Description: Supplier 1 URL; ComponentLink2URL: https://www.mouser.vn/ProductDetail/KYOCERA-AVX/TPSE156K050R0250?qs=zqHBI9Swi3UCa60dYSAZtg%3D%3D; Size: 2917; Mounting Technology: SMT; Capacitance: 15uF; ComponentLink3Description: Supplier 2 URL; ComponentLink3URL: https://www.digikey.com/en/products/detail/kyocera-avx/TPSE156K050R0250/809562; ComponentLink4Description: Supplier 3 URL; ComponentLink4URL: N/A; Supplier 1 Name: Mouser; Supplier 1 SN: 581-TPSE156K050R0250; Supplier 1 URL: https://www.mouser.vn/ProductDetail/KYOCERA-AVX/TPSE156K050R0250?qs=zqHBI9Swi3UCa60dYSAZtg%3D%3D; Supplier 2 Name: Digi-Key; Supplier 2 SN: 478-3112-1-ND; Supplier 2 URL: https://www.digikey.com/en/products/detail/kyocera-avx/TPSE156K050R0250/809562; Supplier 3 Name: thegioiic; Supplier 3 SN: N/A; Supplier 3 URL: N/A; Value: 15 µF, 50 V; Rated Voltage: 50 V
footprint TANTALUM SMD D (SMD TIPO D 7.3x4.3x2.4)
pins: 1, 2
text: +

## 01291715710
designator C?, comment 150 µF, 20 V
CAP TANT 150uF 10% 20V 2917; Manufacture  Name: KYOCERA AVX; Manufacture  SN: TAJE157K020RNJ; Capacitance Tolerance: +/-10%; ComponentLink1Description: Datasheet link; ComponentLink1URL: https://datasheets.kyocera-avx.com/TAJ.pdf; ComponentLink2Description: Supplier 1 URL; ComponentLink2URL: https://www.mouser.vn/ProductDetail/KYOCERA-AVX/TAJE157K020RNJ?qs=A5TU6qcA1mELCNFl9%2Fw8fQ%3D%3D; Size: 2917; Mounting Technology: SMT; Capacitance: 150uF; ComponentLink3Description: Supplier 2 URL; ComponentLink3URL: https://www.digikey.com/en/products/detail/kyocera-avx/TAJE157K020RNJ/678445; ComponentLink4Description: Supplier 3 URL; ComponentLink4URL: N/A; Supplier 1 Name: Mouser; Supplier 1 SN: 581-TAJE157K020R; Supplier 1 URL: https://www.mouser.vn/ProductDetail/KYOCERA-AVX/TAJE157K020RNJ?qs=A5TU6qcA1mELCNFl9%2Fw8fQ%3D%3D; Supplier 2 Name: Digi-Key; Supplier 2 SN: 478-2360-1-ND; Supplier 2 URL: https://www.digikey.com/en/products/detail/kyocera-avx/TAJE157K020RNJ/678445; Supplier 3 Name: thegioiic; Supplier 3 SN: N/A; Supplier 3 URL: N/A; Value: 150 µF, 20 V; Rated Voltage: 20 V
footprint TANTALUM SMD E (SMD TIPO E  7.3x4.3x4.1)
pins: 1, 2
text: +

## 01291722610
designator C?, comment 22 µF, 50 V
CAP TANT 22uF 10% 50V 2917; Manufacture  Name: KYOCERA AVX; Manufacture  SN: TPME226K050R0075; Capacitance Tolerance: +/-10%; ComponentLink1Description: Datasheet link; ComponentLink1URL: https://datasheets.kyocera-avx.com/TAJ.pdf; ComponentLink2Description: Supplier 1 URL; ComponentLink2URL: https://www.mouser.vn/ProductDetail/KYOCERA-AVX/TPME226K050R0075?qs=q8tHwdJXVVbW8OsIp2F5rg%3D%3D; Size: 2917; Mounting Technology: SMT; Capacitance: 22uF; ComponentLink3Description: Supplier 2 URL; ComponentLink3URL: https://www.digikey.com/en/products/detail/kyocera-avx/TPME226K050R0075/1472543; ComponentLink4Description: Supplier 3 URL; ComponentLink4URL: N/A; Supplier 1 Name: Mouser; Supplier 1 SN: 581-TPME226K050R0075; Supplier 1 URL: https://www.mouser.vn/ProductDetail/KYOCERA-AVX/TPME226K050R0075?qs=q8tHwdJXVVbW8OsIp2F5rg%3D%3D; Supplier 2 Name: Digi-Key; Supplier 2 SN: 478-7992-1-ND; Supplier 2 URL: https://www.digikey.com/en/products/detail/kyocera-avx/TPME226K050R0075/1472543; Supplier 3 Name: thegioiic; Supplier 3 SN: N/A; Supplier 3 URL: N/A; Value: 22 µF, 50 V; Rated Voltage: 50 V
footprint TANTALUM SMD D (SMD TIPO D 7.3x4.3x2.4)
pins: 1, 2
text: +

## 01291722710
designator C?, comment 220 µF, 16 V
CAP TANT 220uF 10% 16V 2917; Manufacture  Name: KYOCERA AVX; Manufacture  SN: TPSE227K016R0050V; Capacitance Tolerance: +/-10%; ComponentLink1Description: Datasheet link; ComponentLink1URL: https://datasheets.kyocera-avx.com/TAJ.pdf; ComponentLink2Description: Supplier 1 URL; ComponentLink2URL: https://www.mouser.vn/ProductDetail/KYOCERA-AVX/TPSE227K016R0050V?qs=W0yvOO0ixfEmst16dtXTlA%3D%3D; Size: 2917; Mounting Technology: SMT; Capacitance: 220uF; ComponentLink3Description: Supplier 2 URL; ComponentLink3URL: https://www.digikey.com/en/products/detail/kyocera-avx/TPSE227K016R0050V/8024357; ComponentLink4Description: Supplier 3 URL; ComponentLink4URL: N/A; Supplier 1 Name: Mouser; Supplier 1 SN: 581-TPSE227K16R0050V; Supplier 1 URL: https://www.mouser.vn/ProductDetail/KYOCERA-AVX/TPSE227K016R0050V?qs=W0yvOO0ixfEmst16dtXTlA%3D%3D; Supplier 2 Name: Digi-Key; Supplier 2 SN: 478-11492-1-ND; Supplier 2 URL: https://www.digikey.com/en/products/detail/kyocera-avx/TPSE227K016R0050V/8024357; Supplier 3 Name: thegioiic; Supplier 3 SN: N/A; Supplier 3 URL: N/A; Value: 220 µF, 16 V; Rated Voltage: 16 V
footprint TANTALUM SMD E (SMD TIPO E  7.3x4.3x4.1)
pins: 1, 2
text: +

## 01291733510
designator C?, comment 3.3 µF, 50 V
CAP TANT 3.3uF 10% 50V 2917; Manufacture  Name: KYOCERA AVX; Manufacture  SN: TAJD335K050RNJ; Capacitance Tolerance: +/-10%; ComponentLink1Description: Datasheet link; ComponentLink1URL: https://datasheets.kyocera-avx.com/TAJ.pdf; ComponentLink2Description: Supplier 1 URL; ComponentLink2URL: https://www.mouser.vn/ProductDetail/KYOCERA-AVX/TAJD335K050RNJ?qs=min0%252Bk%2FlUAbFk%2FXGb1ea6w%3D%3D; Size: 2917; Mounting Technology: SMT; Capacitance: 3.3uF; ComponentLink3Description: Supplier 2 URL; ComponentLink3URL: https://www.digikey.com/en/products/detail/kyocera-avx/TAJD335K050RNJ/563837; ComponentLink4Description: Supplier 3 URL; ComponentLink4URL: N/A; Supplier 1 Name: Mouser; Supplier 1 SN: 581-TAJD335K050R; Supplier 1 URL: https://www.mouser.vn/ProductDetail/KYOCERA-AVX/TAJD335K050RNJ?qs=min0%252Bk%2FlUAbFk%2FXGb1ea6w%3D%3D; Supplier 2 Name: Digi-Key; Supplier 2 SN: 478-1733-1-ND; Supplier 2 URL: https://www.digikey.com/en/products/detail/kyocera-avx/TAJD335K050RNJ/563837; Supplier 3 Name: thegioiic; Supplier 3 SN: N/A; Supplier 3 URL: N/A; Value: 3.3 µF, 50 V; Rated Voltage: 50 V
footprint TANTALUM SMD D (SMD TIPO D 7.3x4.3x2.4)
pins: 1, 2
text: +

## 01291733610
designator C?, comment 33 µF, 35 V
CAP TANT 33uF 10% 35V 2917; Manufacture  Name: KYOCERA AVX; Manufacture  SN: TAJD336K035RNJ; Capacitance Tolerance: +/-10%; ComponentLink1Description: Datasheet link; ComponentLink1URL: https://datasheets.kyocera-avx.com/TAJ.pdf; ComponentLink2Description: Supplier 1 URL; ComponentLink2URL: https://www.mouser.vn/ProductDetail/KYOCERA-AVX/TAJD336K035RNJ?qs=vQJa%252BfcOt8MggGR4oth5Ow%3D%3D; Size: 2917; Mounting Technology: SMT; Capacitance: 33uF; ComponentLink3Description: Supplier 2 URL; ComponentLink3URL: https://www.digikey.com/en/products/detail/kyocera-avx/TAJD336K035RNJ/563839; ComponentLink4Description: Supplier 3 URL; ComponentLink4URL: N/A; Supplier 1 Name: Mouser; Supplier 1 SN: 581-TAJD336K035R; Supplier 1 URL: https://www.mouser.vn/ProductDetail/KYOCERA-AVX/TAJD336K035RNJ?qs=vQJa%252BfcOt8MggGR4oth5Ow%3D%3D; Supplier 2 Name: Digi-Key; Supplier 2 SN: 478-1735-1-ND; Supplier 2 URL: https://www.digikey.com/en/products/detail/kyocera-avx/TAJD336K035RNJ/563839; Supplier 3 Name: thegioiic; Supplier 3 SN: N/A; Supplier 3 URL: N/A; Value: 33 µF, 35 V; Rated Voltage: 35 V
footprint TANTALUM SMD D (SMD TIPO D 7.3x4.3x2.4)
pins: 1, 2
text: +

## 01291733710
designator C?, comment 330 µF, 16 V
CAP TANT 330uF 10% 16V 2917; Manufacture  Name: KYOCERA AVX; Manufacture  SN: TPME337K016R0050; Capacitance Tolerance: +/-10%; ComponentLink1Description: Datasheet link; ComponentLink1URL: https://datasheets.kyocera-avx.com/TAJ.pdf; ComponentLink2Description: Supplier 1 URL; ComponentLink2URL: https://www.mouser.vn/ProductDetail/KYOCERA-AVX/TPME337K016R0050?qs=W1ya688zOSzOcpyGPGEC%2Fg%3D%3D; Size: 2917; Mounting Technology: SMT; Capacitance: 330uF; ComponentLink3Description: Supplier 2 URL; ComponentLink3URL: https://www.digikey.com/en/products/detail/kyocera-avx/TPME337K016R0050/9919952?s=N4IgjCBcoMxaBjKAzAhgGwM4FMA0IB7KAbXBgBYAGEAXXwAcAXKEAZUYCcBLAOwHMQAX3wA2AJzwQSSGix5CJEFTEwVtBs0htOvAcJAAmSuQnQpKDDnxFIpGDEoACAK0AxdSCYsAqjy6MAeWQAWWxUTABXDmwhfCMAdlNECzlrRTARRwA1Dy8tX38g0PComP0AWggzaVkrBVsleIAOWkE2oA; ComponentLink4Description: Supplier 3 URL; ComponentLink4URL: N/A; Supplier 1 Name: Mouser; Supplier 1 SN: 581-TPME337K016R0050; Supplier 1 URL: https://www.mouser.vn/ProductDetail/KYOCERA-AVX/TPME337K016R0050?qs=W1ya688zOSzOcpyGPGEC%2Fg%3D%3D; Supplier 2 Name: Digi-Key; Supplier 2 SN: 478-12564-1-ND; Supplier 2 URL: https://www.digikey.com/en/products/detail/kyocera-avx/TPME337K016R0050/9919952?s=N4IgjCBcoMxaBjKAzAhgGwM4FMA0IB7KAbXBgBYAGEAXXwAcAXKEAZUYCcBLAOwHMQAX3wA2AJzwQSSGix5CJEFTEwVtBs0htOvAcJAAmSuQnQpKDDnxFIpGDEoACAK0AxdSCYsAqjy6MAeWQAWWxUTABXDmwhfCMAdlNECzlrRTARRwA1Dy8tX38g0PComP0AWggzaVkrBVsleIAOWkE2oA; Supplier 3 Name: thegioiic; Supplier 3 SN: N/A; Supplier 3 URL: N/A; Value: 330 µF, 16 V; Rated Voltage: 16 V
footprint TANTALUM SMD E (SMD TIPO E  7.3x4.3x4.1)
pins: 1, 2
text: +

## 01291747510
designator C?, comment 4.7 µF, 50 V
CAP TANT 4.7uF 10% 50V 2917; Manufacture  Name: KYOCERA AVX; Manufacture  SN: TPSD475K050R0300; Capacitance Tolerance: +/-10%; ComponentLink1Description: Datasheet link; ComponentLink1URL: https://datasheets.kyocera-avx.com/TAJ.pdf; ComponentLink2Description: Supplier 1 URL; ComponentLink2URL: https://www.mouser.vn/ProductDetail/KYOCERA-AVX/TPSD475K050R0300?qs=wrX3JTFdE7oHRyitgUuFCA%3D%3D; Size: 2917; Mounting Technology: SMT; Capacitance: 4.7uF; ComponentLink3Description: Supplier 2 URL; ComponentLink3URL: https://www.digikey.com/en/products/detail/kyocera-avx/TPSD475K050R0300/929971; ComponentLink4Description: Supplier 3 URL; ComponentLink4URL: N/A; Supplier 1 Name: Mouser; Supplier 1 SN: 581-TPSD475K050R0300; Supplier 1 URL: https://www.mouser.vn/ProductDetail/KYOCERA-AVX/TPSD475K050R0300?qs=wrX3JTFdE7oHRyitgUuFCA%3D%3D; Supplier 2 Name: Digi-Key; Supplier 2 SN: 478-3339-1-ND; Supplier 2 URL: https://www.digikey.com/en/products/detail/kyocera-avx/TPSD475K050R0300/929971; Supplier 3 Name: thegioiic; Supplier 3 SN: N/A; Supplier 3 URL: N/A; Value: 4.7 µF, 50 V; Rated Voltage: 50 V
footprint TANTALUM SMD D (SMD TIPO D 7.3x4.3x2.4)
pins: 1, 2
text: +

## 01291747610
designator C?, comment 47 µF, 35 V
CAP TANT 47uF 10% 35V 2917; Manufacture  Name: KYOCERA AVX; Manufacture  SN: TPSE476K035R0200; Capacitance Tolerance: +/-10%; ComponentLink1Description: Datasheet link; ComponentLink1URL: https://datasheets.kyocera-avx.com/TAJ.pdf; ComponentLink2Description: Supplier 1 URL; ComponentLink2URL: https://www.mouser.vn/ProductDetail/KYOCERA-AVX/TPSE476K035R0200?qs=I5HC5gB3GKjYbtrn0ImGxw%3D%3D; Size: 2917; Mounting Technology: SMT; Capacitance: 47uF; ComponentLink3Description: Supplier 2 URL; ComponentLink3URL: https://www.digikey.com/en/products/detail/kyocera-avx/TPSE476K035R0200/809559; ComponentLink4Description: Supplier 3 URL; ComponentLink4URL: N/A; Supplier 1 Name: Mouser; Supplier 1 SN: 581-TPSE476K035R0200; Supplier 1 URL: https://www.mouser.vn/ProductDetail/KYOCERA-AVX/TPSE476K035R0200?qs=I5HC5gB3GKjYbtrn0ImGxw%3D%3D; Supplier 2 Name: Digi-Key; Supplier 2 SN: 478-3109-1-ND; Supplier 2 URL: https://www.digikey.com/en/products/detail/kyocera-avx/TPSE476K035R0200/809559; Supplier 3 Name: thegioiic; Supplier 3 SN: N/A; Supplier 3 URL: N/A; Value: 47 µF, 35 V; Rated Voltage: 35 V
footprint TANTALUM SMD E (SMD TIPO E  7.3x4.3x4.1)
pins: 1, 2
text: +

## 01291747710
designator C?, comment 680 µF, 6.3 V
CAP TANT 470uF 10% 10V 2917; Manufacture  Name: KYOCERA AVX; Manufacture  SN: TPSE477K010R0050; Capacitance Tolerance: +/-10%; Rated Voltage: 6.3 V; ComponentLink1Description: Datasheet link; ComponentLink1URL: https://datasheets.kyocera-avx.com/TAJ.pdf; ComponentLink2Description: Supplier 1 URL; ComponentLink2URL: https://www.mouser.vn/ProductDetail/KYOCERA-AVX/TPSE477K010R0050?qs=5Zj29TPZW%2FoRtd33LTnGSw%3D%3D; Size: 2917; Mounting Technology: SMT; Capacitance: 470uF; ComponentLink3Description: Supplier 2 URL; ComponentLink3URL: https://www.digikey.com/en/products/detail/kyocera-avx/TPSE477K010R0050/3068721; ComponentLink4Description: Supplier 3 URL; ComponentLink4URL: N/A; Supplier 1 Name: Mouser; Supplier 1 SN: 581-TPSE477K010R0050; Supplier 1 URL: https://www.mouser.vn/ProductDetail/KYOCERA-AVX/TPSE477K010R0050?qs=5Zj29TPZW%2FoRtd33LTnGSw%3D%3D; Supplier 2 Name: Digi-Key; Supplier 2 SN: 478-9250-1-ND; Supplier 2 URL: https://www.digikey.com/en/products/detail/kyocera-avx/TPSE477K010R0050/3068721; Supplier 3 Name: thegioiic; Supplier 3 SN: N/A; Supplier 3 URL: N/A; Value: 680 µF, 6.3 V
footprint TANTALUM SMD E (SMD TIPO E  7.3x4.3x4.1)
pins: 1, 2
text: +

## 01291768510
designator C?, comment 6.8 µF, 50 V
CAP TANT 6.8uF 10% 50V 2917; Manufacture  Name: KYOCERA AVX; Manufacture  SN: TAJD685K050RNJ; Capacitance Tolerance: +/-10%; ComponentLink1Description: Datasheet link; ComponentLink1URL: https://datasheets.kyocera-avx.com/TAJ.pdf; ComponentLink2Description: Supplier 1 URL; ComponentLink2URL: https://www.mouser.vn/ProductDetail/KYOCERA-AVX/TAJD685K050RNJ?qs=vQJa%252BfcOt8M%252B4ZupFZ%2Fhmg%3D%3D; Size: 2917; Mounting Technology: SMT; Capacitance: 6.8uF; ComponentLink3Description: Supplier 2 URL; ComponentLink3URL: https://www.digikey.com/en/products/detail/kyocera-avx/TAJD685K050RNJ/563847; ComponentLink4Description: Supplier 3 URL; ComponentLink4URL: N/A; Supplier 1 Name: Mouser; Supplier 1 SN: 581-TAJD685K050; Supplier 1 URL: https://www.mouser.vn/ProductDetail/KYOCERA-AVX/TAJD685K050RNJ?qs=vQJa%252BfcOt8M%252B4ZupFZ%2Fhmg%3D%3D; Supplier 2 Name: Digi-Key; Supplier 2 SN: 478-1743-1-ND; Supplier 2 URL: https://www.digikey.com/en/products/detail/kyocera-avx/TAJD685K050RNJ/563847; Supplier 3 Name: thegioiic; Supplier 3 SN: N/A; Supplier 3 URL: N/A; Value: 6.8 µF, 50 V; Rated Voltage: 50 V
footprint TANTALUM SMD D (SMD TIPO D 7.3x4.3x2.4)
pins: 1, 2
text: +

## 01291768710
designator C?, comment 680 µF, 6.3 V
CAP TANT 680uF 10% 6.3V 2917; Manufacture  Name: KYOCERA AVX; Manufacture  SN: TPSE687K006R0060; Capacitance Tolerance: +/-10%; ComponentLink1Description: Datasheet link; ComponentLink1URL: https://datasheets.kyocera-avx.com/TAJ.pdf; ComponentLink2Description: Supplier 1 URL; ComponentLink2URL: https://www.mouser.vn/ProductDetail/KYOCERA-AVX/TPSE687K006R0060?qs=cyMPNcbJodx776i9WJrRoQ%3D%3D; Size: 2917; Mounting Technology: SMT; Capacitance: 680uF; ComponentLink3Description: Supplier 2 URL; ComponentLink3URL: https://www.digikey.com/en/products/detail/kyocera-avx/TPSE687K006R0060/3068741; ComponentLink4Description: Supplier 3 URL; ComponentLink4URL: N/A; Supplier 1 Name: Mouser; Supplier 1 SN: 581-TPSE687K006R0060; Supplier 1 URL: https://www.mouser.vn/ProductDetail/KYOCERA-AVX/TPSE687K006R0060?qs=cyMPNcbJodx776i9WJrRoQ%3D%3D; Supplier 2 Name: Digi-Key; Supplier 2 SN: 478-9258-1-ND; Supplier 2 URL: https://www.digikey.com/en/products/detail/kyocera-avx/TPSE687K006R0060/3068741; Supplier 3 Name: thegioiic; Supplier 3 SN: N/A; Supplier 3 URL: N/A; Value: 680 µF, 6.3 V; Rated Voltage: 6.3 V
footprint TANTALUM SMD E (SMD TIPO E  7.3x4.3x4.1)
pins: 1, 2
text: +